# Altium schematic symbol library Potentiometer.SchLib: 1 symbol
Pins are listed as number, name and electrical type; pins without a type are passive.

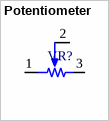
[diagram p0: symbol Potentiometer]

## Potentiometer
designator VR?
MP: 3296W-1-254LF; MF: Bourns; SnapEDA_Link: https://www.snapeda.com/parts/3296W-1-254LF/Bourns+-+J.W.+Miller/view-part/?ref=snap; Package: SOT-23-5 Bourns; Availability: In Stock; Price: None; Purchase-URL: https://pricing.snapeda.com/search/part/3296W-1-254LF/?ref=eda; Check_prices: https://www.snapeda.com/parts/3296W-1-254LF/Bourns+-+J.W.+Miller/view-part/?ref=eda; Value: *
footprint TRIM_3296W-1-254LF
pins: 1 CCW, 2 WIPER, 3 CW